# Altium schematic symbol library SCH - MCU - RENESAS - RENESAS R7FS1JA7XXXXXXFJ 32LQFP.SchLib: 1 symbol
Pins are listed as number, name and electrical type; pins without a type are passive.

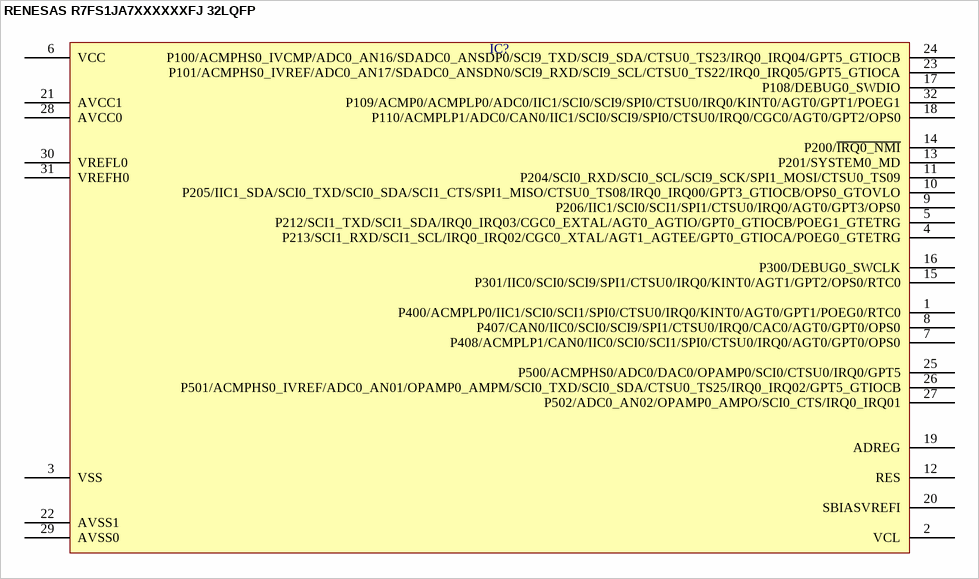
[diagram p0: symbol RENESAS R7FS1JA7XXXXXXFJ 32LQFP]

## RENESAS R7FS1JA7XXXXXXFJ 32LQFP
designator IC?  (value not drawn)
pins: 1 P400/ACMPLP0/IIC1/SCI0/SCI1/SPI0/CTSU0/IRQ0/KINT0/AGT0/GPT1/POEG0/RTC0, 2 VCL, 3 VSS, 4 P213/SCI1_RXD/SCI1_SCL/IRQ0_IRQ02/CGC0_XTAL/AGT1_AGTEE/GPT0_GTIOCA/POEG0_GTETRG, 5 P212/SCI1_TXD/SCI1_SDA/IRQ0_IRQ03/CGC0_EXTAL/AGT0_AGTIO/GPT0_GTIOCB/POEG1_GTETRG, 6 VCC, 7 P408/ACMPLP1/CAN0/IIC0/SCI0/SCI1/SPI0/CTSU0/IRQ0/AGT0/GPT0/OPS0, 8 P407/CAN0/IIC0/SCI0/SCI9/SPI1/CTSU0/IRQ0/CAC0/AGT0/GPT0/OPS0, 9 P206/IIC1/SCI0/SCI1/SPI1/CTSU0/IRQ0/AGT0/GPT3/OPS0, 10 P205/IIC1_SDA/SCI0_TXD/SCI0_SDA/SCI1_CTS/SPI1_MISO/CTSU0_TS08/IRQ0_IRQ00/GPT3_GTIOCB/OPS0_GTOVLO, 11 P204/SCI0_RXD/SCI0_SCL/SCI9_SCK/SPI1_MOSI/CTSU0_TS09, 12 RES, 13 P201/SYSTEM0_MD, 14 P200/~{IRQ0_NMI}, 15 P301/IIC0/SCI0/SCI9/SPI1/CTSU0/IRQ0/KINT0/AGT1/GPT2/OPS0/RTC0, 16 P300/DEBUG0_SWCLK, 17 P108/DEBUG0_SWDIO, 18 P110/ACMPLP1/ADC0/CAN0/IIC1/SCI0/SCI9/SPI0/CTSU0/IRQ0/CGC0/AGT0/GPT2/OPS0, 19 ADREG, 20 SBIASVREFI, 21 AVCC1, 22 AVSS1, 23 P101/ACMPHS0_IVREF/ADC0_AN17/SDADC0_ANSDN0/SCI9_RXD/SCI9_SCL/CTSU0_TS22/IRQ0_IRQ05/GPT5_GTIOCA, 24 P100/ACMPHS0_IVCMP/ADC0_AN16/SDADC0_ANSDP0/SCI9_TXD/SCI9_SDA/CTSU0_TS23/IRQ0_IRQ04/GPT5_GTIOCB, 25 P500/ACMPHS0/ADC0/DAC0/OPAMP0/SCI0/CTSU0/IRQ0/GPT5, 26 P501/ACMPHS0_IVREF/ADC0_AN01/OPAMP0_AMPM/SCI0_TXD/SCI0_SDA/CTSU0_TS25/IRQ0_IRQ02/GPT5_GTIOCB, 27 P502/ADC0_AN02/OPAMP0_AMPO/SCI0_CTS/IRQ0_IRQ01, 28 AVCC0, 29 AVSS0, 30 VREFL0, 31 VREFH0, 32 P109/ACMP0/ACMPLP0/ADC0/IIC1/SCI0/SCI9/SPI0/CTSU0/IRQ0/KINT0/AGT0/GPT1/POEG1